# EAGLE library part TCA0372 (library op_amp)
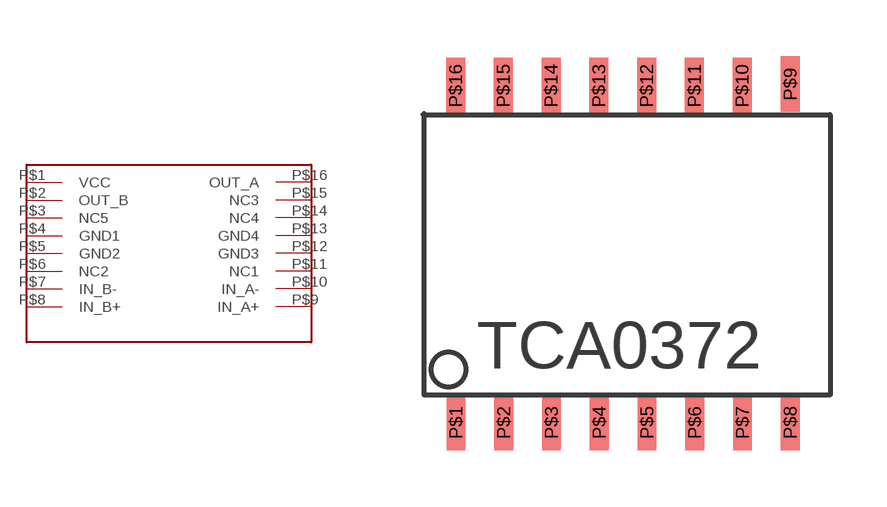
[diagram p0: symbol with the pads of SOIC; footprint SOIC]

Designator prefix -

## TCA0372  [SOIC]
P$1  VCC
P$2  OUT_B
P$3  NC5
P$4  GND1
P$5  GND2
P$6  NC2
P$7  IN_B-
P$8  IN_B+
P$9  IN_A+
P$10  IN_A-
P$11  NC1
P$12  GND3
P$13  GND4
P$14  NC4
P$15  NC3
P$16  OUT_A

## Footprint SOIC (pad centres in mm)
smd 0.5 x 1.475: P$1 0,0; P$2 1.27,0; P$3 2.54,0; P$4 3.81,0; P$5 5.08,0; P$6 6.35,0; P$7 7.62,0; P$8 8.89,0; P$9 8.89,9; P$10 7.61,8.96; P$11 6.34,8.96; P$12 5.07,8.96; P$13 3.8,8.96; P$14 2.53,8.96; P$15 1.26,8.96; P$16 -0.01,8.96